# Altium schematic symbol library PCB Headers.SchLib: 2 symbols
Pins are listed as number, name and electrical type; pins without a type are passive.

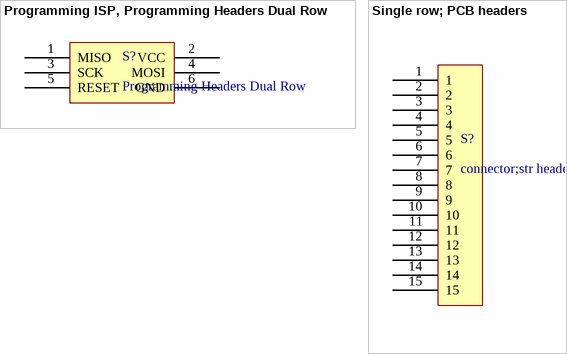
[diagram p0: symbols Programming ISP, Programming Headers Dual Row to Single row; PCB headers]

## Programming ISP, Programming Headers Dual Row
designator S?, comment Programming Headers Dual Row
Manufacturer: FCI; Manufacturer Part No.: 68000-236HLF; Current Rating: 3Amps Continuous; Created By: R Kanjee; Date Created: 1 March 2015; RS Stock No.: 2509565626
footprint ISP HEADER (SIL Header for programming)
pins: 1 MISO, 2 VCC, 3 SCK, 4 MOSI, 5 RESET, 6 GND

## Single row; PCB headers
designator S?, comment connector;str header;single row;.1 cont centers;.095 tail;gold or gtx;36 contact
Manufacturer: FCI; Manufacturer Part No.: 68000-236HLF; Current Rating: 3Amps Continuous; Created By: R Kanjee; Date Created: 1 March 2015; RS Stock No.: 2509565626
footprint Header (SIL Header)
pins: 1, 2, 3, 4, 5, 6, 7, 8, 9, 10, 11, 12, 13, 14, 15